# Altium schematic symbol library IO Schematic Lib.SchLib: 3 symbols
Pins are listed as number, name and electrical type; pins without a type are passive.

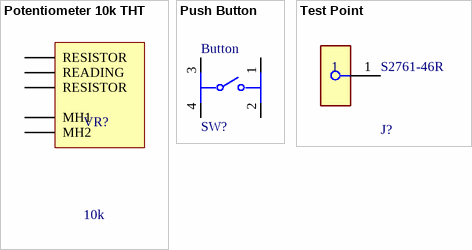
[diagram p0: symbols Potentiometer 10k THT to Test Point]

## Potentiometer 10k THT
designator VR?, comment 10k
Res POT 10K Ohm 20% 1(Elec)/1(Mech)Turn 6mm (9.8 X 18.8mm) Pin Bracket Mount/Through Hole Compact type potentiometer with 9.8mm width is ideal for designing high density sets; Manufacturer_Name: ALPS Electric; Manufacturer_Part_Number: RK09K1130AP5; Geometry.Height: 30mm; Mouser Part Number: 688-RK09K1130AP5; Mouser Price/Stock: https://www.mouser.co.uk/ProductDetail/Alps-Alpine/RK09K1130AP5?qs=6EGMNY9ZYDRMiTGy256iug%3D%3D; Arrow Part Number: RK09K1130AP5; Arrow Price/Stock: https://www.arrow.com/en/products/rk09k1130ap5/alps-electric; Mouser Testing Part Number: *; Mouser Testing Price/Stock: *; Datasheet Link: https://www.arrow.com/en/products/rk09k1130ap5/alps-electric; MPN: RK09K1130AP5; JLCPCB Part #: C470295; JLCPCB Basic Part: FALSE
footprint RK09K1130AP5
pins: 1 RESISTOR, 2 READING, 3 RESISTOR, MH1, MH2

## Push Button
designator SW?, comment Button
SWITCH TACTILE SPST-NO 0.05A 12V; MPN: PTS645SM43SMTR92LFS; Contact Resistance: 100mR; Throw Configuration: SPST; Illumination Type: Non-Illuminated; Mechanical Life: 100000Cycles; Current Rating: 50mA; Switch Function: Off-Mom; Actuator Length: 0.85mm; Actuator Material: Nylon; Actuator Type: Standard; Operating Force: 160gf; Min Operating Temperature: -20°C; REACH SVHC: No SVHC; Termination: Gull Wing; Case/Package: SMD/SMT; Packaging: Tape and Reel; Mount: Surface Mount; Voltage Rating (DC): 12V; Orientation: Straight; Lead Free: Lead Free; Contact Material: Silver; Color: Black; Max Current Rating: 50mA; Contact Plating: Silver; Depth: 9mm; Package Quantity: 1; Max Voltage Rating (DC): 12V; Length: 6mm; Max Operating Temperature: 60°C; JLCPCB Part #: C221880; JLCPCB Basic Part: FALSE
footprint PTS645SM43SMTR92LFS
pins: 1, 2, 3, 4

## Test Point
designator J?, comment S2761-46R
PC TEST POINT NATURAL; Body Material: Brass; Plating: Tin; Material: Copper Alloy; Mount: Surface Mount; Color: Natural; Packaging: Tape and Reel; RoHS Compliant: Yes; MPN: S2761-46R; DNI: DNI; DNP: DNP
footprint S2761-46R
pins: 1